# Altium footprint library common.PcbLib: 92 footprints (part 4 of 6)
Each footprint in its own frame and in the unit in brackets; x right, y up, seen from the top. Pads: shape width x height; smd on the part's side, far side on the other; paste and mask are expansions set on the pad; w line width, h text height; cw(c..) or ccw(c..) is an arc to the next point about the centre after c.
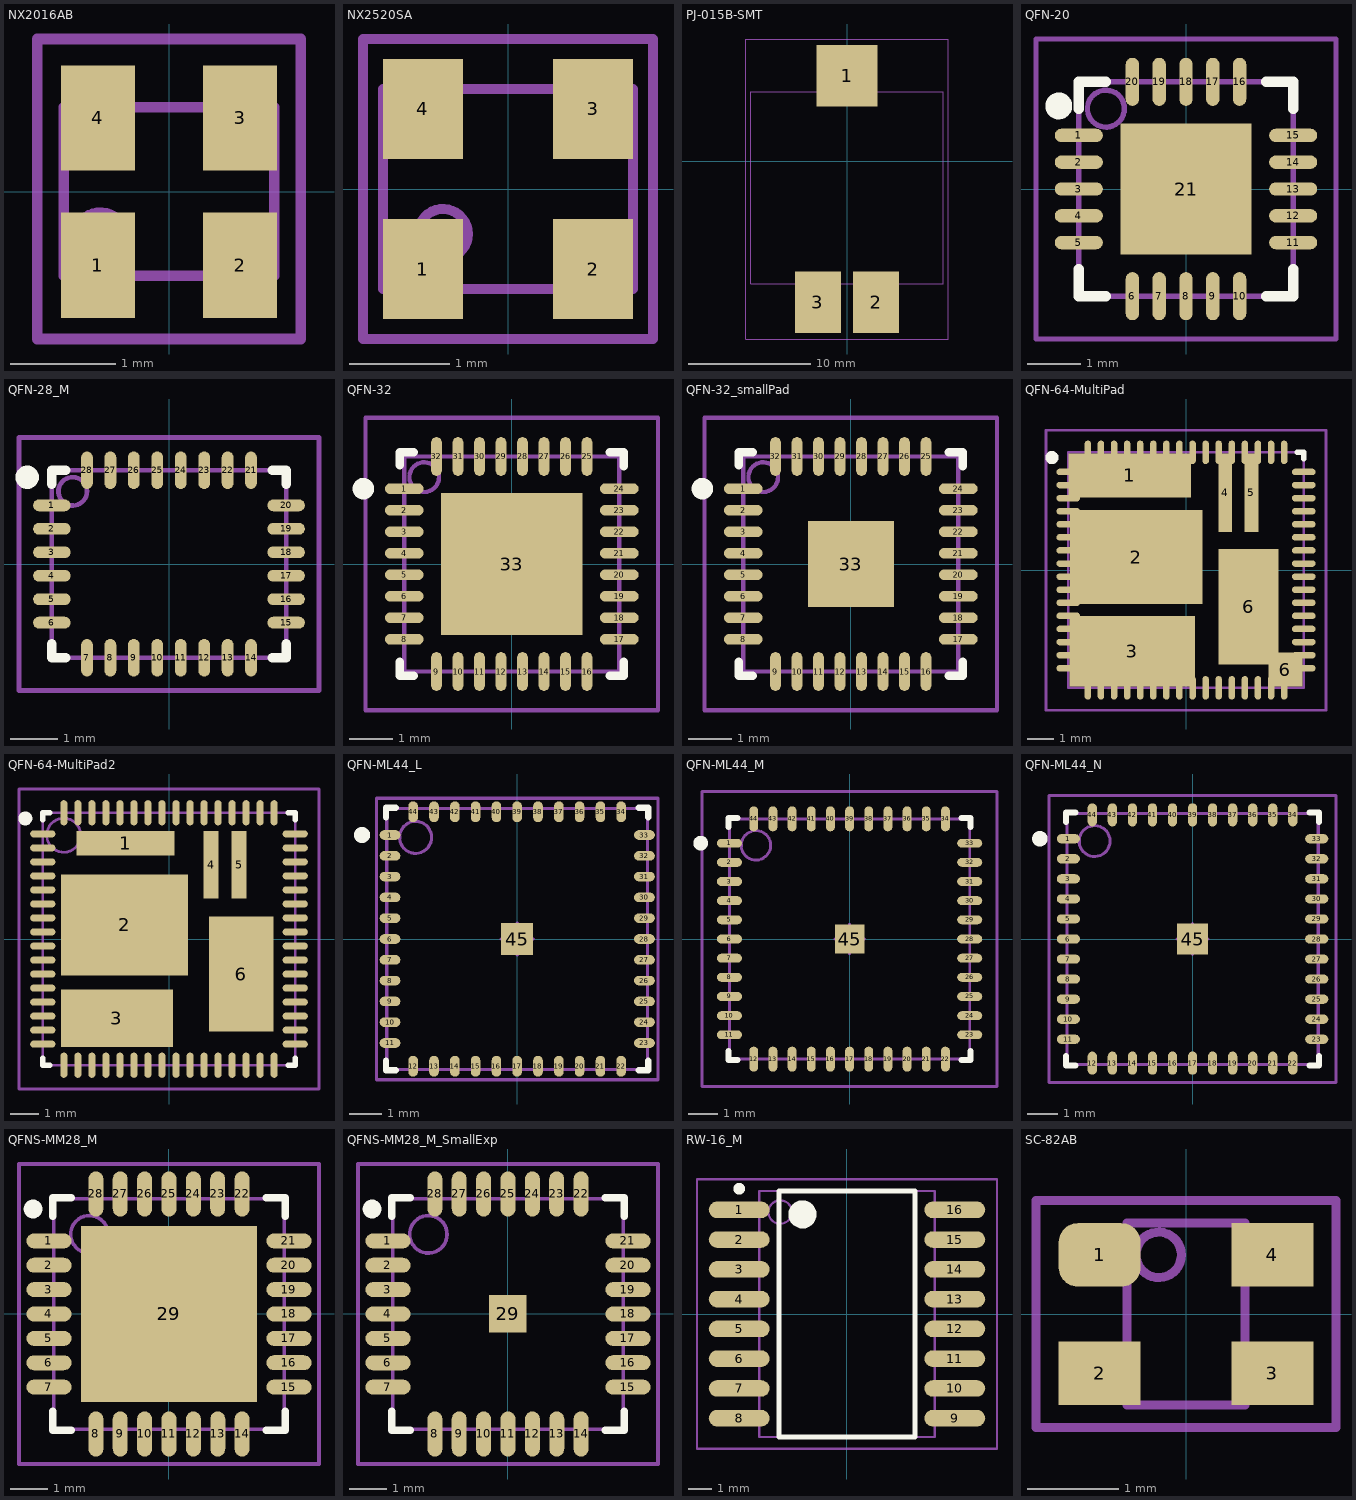
[diagram p3: the footprints below, top view; thin cyan lines are the x and y axes]

## NX2016AB [mm] "Crystal Package, Body 2.0x1.6mm, Pitch 1.05mm, IPC Low Density"
height 0.4
pads (4):
  rect 0.7x1 smd: 1(-0.675,-0.7) 2(0.675,-0.7) 3(0.675,0.7) 4(-0.675,0.7)
Mechanical 13:
  circle w0.1: c-0.65,-0.45 r0.25
  lines w0.1: -1,-0.8 -1,0.8 1,0.8 1,-0.8 -1,-0.8
Mechanical 15:
  lines w0.1: -1.25,-1.4 -1.25,1.45 1.25,1.45 1.25,-1.4 -1.25,-1.4
3D body: height 0.4, standoff 0, extent -1,-0.8 1,0.8

## NX2520SA [mm] "Crystal Package, Body 2.5x2.0mm, Pitch 1.65mm, IPC Low Density"
height 0.5
pads (4):
  rect 0.8x1 smd: 1(-0.85,-0.8) 2(0.85,-0.8) 3(0.85,0.8) 4(-0.85,0.8)
Mechanical 13:
  circle w0.1: c-0.65,-0.45 r0.25
  lines w0.1: -1.25,-1 1.25,-1 1.25,1 -1.25,1 -1.25,-1
Mechanical 15:
  lines w0.1: -1.45,-1.5 1.45,-1.5 1.45,1.5 -1.45,1.5 -1.45,-1.5
3D body: height 0.5, standoff 0, extent -1.25,-1 1.25,1

## PJ-015B-SMT [mm] "Power jack vertical SMD connector, Body 15.7x15.7mm, IPC Low Density"
height 14.4
pads (3):
  rect 5x5 smd: 1(0,7)
  rect 3.75x5 smd: 2(2.375,-11.5) 3(-2.375,-11.5)
Mechanical 13:
  lines w0.1: -7.85,-10 -7.85,5.7 7.85,5.7 7.85,-10 -7.85,-10
Mechanical 15:
  lines w0.1: -8.25,-14.5 -8.25,10 8.25,10 8.25,-14.5 -8.25,-14.5
3D body: height 14.4, standoff 0, extent -7.85,-10 7.85,5.7

## QFN-20 [mm] "QFN, 20-Pin, Body 4x4mm, Pitch 0.5mm, IPC Low Density"
height 0.8
pads (21):
  oval 0.9x0.25 smd: 1(-2,1) 2(-2,0.5) 3(-2,0) 4(-2,-0.5) 5(-2,-1) 11(2,-1) 12(2,-0.5) 13(2,0) 14(2,0.5) 15(2,1)
  oval 0.25x0.9 smd: 6(-1,-2) 7(-0.5,-2) 8(0,-2) 9(0.5,-2) 10(1,-2) 16(1,2) 17(0.5,2) 18(0,2) 19(-0.5,2) 20(-1,2)
  rect 2.45x2.45 smd: 21(0,0)
Top Overlay:
  circle w0.25: c-2.375,1.55 r0.125
  lines w0.2: -2,-1.5 -2,-2 -1.5,-2 ; -2,1.5 -2,2 -1.5,2 ; 1.5,-2 2,-2 2,-1.5 ; 1.5,2 2,2 2,1.5
Mechanical 13:
  circle w0.1: c-1.495,1.5 r0.345
  lines w0.1: -2,-2 2,-2 2,2 -2,2 -2,-2
Mechanical 15:
  lines w0.1: -0.5,0 0.5,0 ; 0,-0.5 0,0.5 ; -2.8,-2.8 2.8,-2.8 2.8,2.8 -2.8,2.8 -2.8,-2.8
3D body: height 0.8, standoff 0, extent -2,-2 2,2

## QFN-28_M [mm] "QFN, 28-Leads, Body 5x4mm, Pitch 0.5mm, IPC Low Density"
height 1.2
pads (28):
  oval 0.8x0.25 smd: 1(-2.5,1.25) 2(-2.5,0.75) 3(-2.5,0.25) 4(-2.5,-0.25) 5(-2.5,-0.75) 6(-2.5,-1.25) 15(2.5,-1.25) 16(2.5,-0.75) 17(2.5,-0.25) 18(2.5,0.25) 19(2.5,0.75) 20(2.5,1.25)
  oval 0.25x0.8 smd: 7(-1.75,-2) 8(-1.25,-2) 9(-0.75,-2) 10(-0.25,-2) 11(0.25,-2) 12(0.75,-2) 13(1.25,-2) 14(1.75,-2) 21(1.75,2) 22(1.25,2) 23(0.75,2) 24(0.25,2) 25(-0.25,2) 26(-0.75,2) 27(-1.25,2) 28(-1.75,2)
Top Overlay:
  circle w0.25: c-3.025,1.85 r0.125
  lines w0.2: -2.5,-1.7 -2.5,-2 -2.2,-2 ; -2.5,1.7 -2.5,2 -2.2,2 ; 2.2,-2 2.5,-2 2.5,-1.7 ; 2.2,2 2.5,2 2.5,1.7
Mechanical 13:
  circle w0.1: c-2.054,1.55 r0.304
  lines w0.1: -2.5,-2 2.5,-2 2.5,2 -2.5,2 -2.5,-2
Mechanical 15:
  lines w0.1: -3.2,-2.7 3.2,-2.7 3.2,2.7 -3.2,2.7 -3.2,-2.7
3D body: height 1.2, standoff 0, extent -2.5,-2 2.5,2

## QFN-32 [mm] "QFN 32-Pin, Body 5x5mm, Pitch 0.5mm, IPC Low Density"
height 0.8
pads (33):
  oval 0.9x0.25 smd: 1(-2.5,1.75) 2(-2.5,1.25) 3(-2.5,0.75) 4(-2.5,0.25) 5(-2.5,-0.25) 6(-2.5,-0.75) 7(-2.5,-1.25) 8(-2.5,-1.75) 17(2.5,-1.75) 18(2.5,-1.25) 19(2.5,-0.75) 20(2.5,-0.25) 21(2.5,0.25) 22(2.5,0.75) 23(2.5,1.25) 24(2.5,1.75)
  oval 0.25x0.9 smd: 9(-1.75,-2.5) 10(-1.25,-2.5) 11(-0.75,-2.5) 12(-0.25,-2.5) 13(0.25,-2.5) 14(0.75,-2.5) 15(1.25,-2.5) 16(1.75,-2.5) 25(1.75,2.5) 26(1.25,2.5) 27(0.75,2.5) 28(0.25,2.5) 29(-0.25,2.5) 30(-0.75,2.5) 31(-1.25,2.5) 32(-1.75,2.5)
  rect 3.3x3.3 smd: 33(0,0)
Top Overlay:
  circle w0.25: c-3.45,1.75 r0.125
  lines w0.2: -2.6,-2.275 -2.6,-2.6 -2.275,-2.6 ; -2.6,2.3 -2.6,2.6 -2.275,2.6 ; 2.275,-2.6 2.6,-2.6 2.6,-2.275 ; 2.275,2.6 2.6,2.6 2.6,2.275
Mechanical 13:
  circle w0.1: c-2.035,2.02 r0.345
  lines w0.1: -2.5,-2.5 2.5,-2.5 2.5,2.5 -2.5,2.5 -2.5,-2.5
Mechanical 15:
  lines w0.1: -0.5,0 0.5,0 ; 0,-0.5 0,0.5 ; -3.4,-3.4 3.4,-3.4 3.4,3.4 -3.4,3.4 -3.4,-3.4
3D body: height 0.8, standoff 0, extent -2.5,-2.5 2.5,2.5

## QFN-32_smallPad [mm] "QFN 32-Pin, Body 5x5mm, Pitch 0.5mm, IPC Low Density"
height 0.8
pads (33):
  oval 0.9x0.25 smd: 1(-2.5,1.75) 2(-2.5,1.25) 3(-2.5,0.75) 4(-2.5,0.25) 5(-2.5,-0.25) 6(-2.5,-0.75) 7(-2.5,-1.25) 8(-2.5,-1.75) 17(2.5,-1.75) 18(2.5,-1.25) 19(2.5,-0.75) 20(2.5,-0.25) 21(2.5,0.25) 22(2.5,0.75) 23(2.5,1.25) 24(2.5,1.75)
  oval 0.25x0.9 smd: 9(-1.75,-2.5) 10(-1.25,-2.5) 11(-0.75,-2.5) 12(-0.25,-2.5) 13(0.25,-2.5) 14(0.75,-2.5) 15(1.25,-2.5) 16(1.75,-2.5) 25(1.75,2.5) 26(1.25,2.5) 27(0.75,2.5) 28(0.25,2.5) 29(-0.25,2.5) 30(-0.75,2.5) 31(-1.25,2.5) 32(-1.75,2.5)
  rect 2x2 smd: 33(0,0)
Top Overlay:
  circle w0.25: c-3.45,1.75 r0.125
  lines w0.2: -2.6,-2.275 -2.6,-2.6 -2.275,-2.6 ; -2.6,2.3 -2.6,2.6 -2.275,2.6 ; 2.275,-2.6 2.6,-2.6 2.6,-2.275 ; 2.275,2.6 2.6,2.6 2.6,2.275
Mechanical 13:
  circle w0.1: c-2.035,2.02 r0.345
  lines w0.1: -2.5,-2.5 2.5,-2.5 2.5,2.5 -2.5,2.5 -2.5,-2.5
Mechanical 15:
  lines w0.1: -0.5,0 0.5,0 ; 0,-0.5 0,0.5 ; -3.4,-3.4 3.4,-3.4 3.4,3.4 -3.4,3.4 -3.4,-3.4
3D body: height 0.8, standoff 0, extent -2.5,-2.5 2.5,2.5

## QFN-64-MultiPad [mm] "QFN, 64 Leads, Body 9x9mm, Pitch 0.5mm, IPC Low Density"
height 0.9
pads (71):
  oval 0.9x0.25 smd: 1(-4.5,2.75) 1(-4.5,3.25) 1(-4.5,3.75) 2(-4.5,-1.25) 2(-4.5,-0.75) 2(-4.5,-0.25) 2(-4.5,0.25) 2(-4.5,0.75) 2(-4.5,1.25) 2(-4.5,1.75) 2(-4.5,2.25) 3(-4.5,-3.75) 3(-4.5,-3.25) 3(-4.5,-2.75) 3(-4.5,-2.25) 3(-4.5,-1.75) 6(4.5,-3.75) 6(4.5,-3.25) 6(4.5,-0.25) 6(4.5,0.75) 6(4.5,2.25) 6(4.5,2.75) 6(4.5,3.25) 6(4.5,3.75) 9(4.5,-2.75) 10(4.5,-2.25) 11(4.5,-1.75) 12(4.5,-1.25) 13(4.5,-0.75) 14(4.5,0.25) 15(4.5,1.25) 16(4.5,1.75)
  oval 0.25x0.9 smd: 1(-3.75,4.5) 1(-3.25,4.5) 1(-2.75,4.5) 1(-2.25,4.5) 1(-1.75,4.5) 1(-1.25,4.5) 1(-0.75,4.5) 1(-0.25,4.5) 1(0.25,4.5) 2(0.75,-4.5) 2(0.75,4.5) 3(-3.75,-4.5) 3(-3.25,-4.5) 3(-2.75,-4.5) 3(-2.25,-4.5) 3(-1.75,-4.5) 3(-1.25,-4.5) 3(-0.75,-4.5) 3(-0.25,-4.5) 3(0.25,-4.5) 4(1.25,4.5) 4(1.75,4.5) 5(2.25,4.5) 5(2.75,4.5) 6(1.75,-4.5) 6(3.25,-4.5) 6(3.25,4.5) 6(3.75,-4.5) 6(3.75,4.5) 7(2.25,-4.5) 8(2.75,-4.5) 17(1.25,-4.5)
  rect 4.7x1.67 smd: 1(-2.15,3.615)
  rect 5.05x3.6 smd: 2(-1.9,0.5)
  rect 4.8x2.7 smd: 3(-2.05,-3.1)
  rect 0.53x3 smd: 4(1.5,2.95) 5(2.5,2.95)
  rect 2.3x4.4 smd: 6(2.39,-1.4)
  rect 1.3x1.3 smd: 6(3.8,-3.8)
Top Overlay:
  circle w0.25: c-5.125,4.3 r0.125
  lines w0.2: 4.25,4.5 4.5,4.5 4.5,4.25
Mechanical 13:
  circle w0.1: c-3.757,3.7 r0.607
  lines w0.1: -4.5,-4.5 -4.5,4.5 4.5,4.5 4.5,-4.5 -4.5,-4.5
Mechanical 15:
  lines w0.1: -0.5,0 0.5,0 ; 0,-0.5 0,0.5 ; -5.35,-5.35 -5.35,5.35 5.35,5.35 5.35,-5.35 -5.35,-5.35
3D body: height 0.9, standoff 0, extent -4.5,-4.5 4.5,4.5

## QFN-64-MultiPad2 [mm] "QFN, 64 Leads, Body 9x9mm, Pitch 0.5mm, IPC Low Density"
height 0.9
pads (70):
  oval 0.9x0.25 smd: 1(-4.5,2.75) 1(-4.5,3.25) 1(-4.5,3.75) 2(-4.5,-1.25) 2(-4.5,-0.75) 2(-4.5,-0.25) 2(-4.5,0.25) 2(-4.5,0.75) 2(-4.5,1.25) 2(-4.5,1.75) 2(-4.5,2.25) 3(-4.5,-3.75) 3(-4.5,-3.25) 3(-4.5,-2.75) 3(-4.5,-2.25) 3(-4.5,-1.75) 6(4.5,-3.75) 6(4.5,-3.25) 6(4.5,-0.25) 6(4.5,0.75) 6(4.5,2.25) 6(4.5,2.75) 6(4.5,3.25) 6(4.5,3.75) 9(4.5,-2.75) 10(4.5,-2.25) 11(4.5,-1.75) 12(4.5,-1.25) 13(4.5,-0.75) 14(4.5,0.25) 15(4.5,1.25) 16(4.5,1.75)
  oval 0.25x0.9 smd: 1(-3.75,4.5) 1(-3.25,4.5) 1(-2.75,4.5) 1(-2.25,4.5) 1(-1.75,4.5) 1(-1.25,4.5) 1(-0.75,4.5) 1(-0.25,4.5) 1(0.25,4.5) 2(0.75,-4.5) 2(0.75,4.5) 3(-3.75,-4.5) 3(-3.25,-4.5) 3(-2.75,-4.5) 3(-2.25,-4.5) 3(-1.75,-4.5) 3(-1.25,-4.5) 3(-0.75,-4.5) 3(-0.25,-4.5) 3(0.25,-4.5) 4(1.25,4.5) 4(1.75,4.5) 5(2.25,4.5) 5(2.75,4.5) 6(1.75,-4.5) 6(3.25,-4.5) 6(3.25,4.5) 6(3.75,-4.5) 6(3.75,4.5) 7(2.25,-4.5) 8(2.75,-4.5) 17(1.25,-4.5)
  rect 3.5x0.87 smd: 1(-1.55,3.415)
  rect 4.53x3.6 smd: 2(-1.585,0.5)
  rect 3.99x2.04 smd: 3(-1.855,-2.83)
  rect 0.53x2.41 smd: 4(1.5,2.645) 5(2.5,2.645)
  rect 2.3x4.1 smd: 6(2.57,-1.25)
Top Overlay:
  circle w0.25: c-5.125,4.3 r0.125
  lines w0.2: -4.5,-4.25 -4.5,-4.5 -4.25,-4.5 ; -4.5,4.25 -4.5,4.5 -4.25,4.5 ; 4.25,-4.5 4.5,-4.5 4.5,-4.25 ; 4.25,4.5 4.5,4.5 4.5,4.25
Mechanical 13:
  circle w0.1: c-3.757,3.7 r0.607
  lines w0.1: -4.5,-4.5 4.5,-4.5 4.5,4.5 -4.5,4.5 -4.5,-4.5
Mechanical 15:
  lines w0.1: -0.5,0 0.5,0 ; 0,-0.5 0,0.5 ; -5.35,-5.35 5.35,-5.35 5.35,5.35 -5.35,5.35 -5.35,-5.35
3D body: height 0.9, standoff 0, extent -4.5,-4.5 4.5,4.5

## QFN-ML44_L [mm] "QFN, 44-Leads, Body 8x8 mm, Pitch 0.65mm, IPC High Density"
height 1
pads (45):
  oval 0.65x0.3 smd: 1(-3.975,3.25) 2(-3.975,2.6) 3(-3.975,1.95) 4(-3.975,1.3) 5(-3.975,0.65) 6(-3.975,0) 7(-3.975,-0.65) 8(-3.975,-1.3) 9(-3.975,-1.95) 10(-3.975,-2.6) 11(-3.975,-3.25) 23(3.975,-3.25) 24(3.975,-2.6) 25(3.975,-1.95) 26(3.975,-1.3) 27(3.975,-0.65) 28(3.975,0) 29(3.975,0.65) 30(3.975,1.3) 31(3.975,1.95) 32(3.975,2.6) 33(3.975,3.25)
  oval 0.3x0.65 smd: 12(-3.25,-3.975) 13(-2.6,-3.975) 14(-1.95,-3.975) 15(-1.3,-3.975) 16(-0.65,-3.975) 17(0,-3.975) 18(0.65,-3.975) 19(1.3,-3.975) 20(1.95,-3.975) 21(2.6,-3.975) 22(3.25,-3.975) 34(3.25,3.975) 35(2.6,3.975) 36(1.95,3.975) 37(1.3,3.975) 38(0.65,3.975) 39(0,3.975) 40(-0.65,3.975) 41(-1.3,3.975) 42(-1.95,3.975) 43(-2.6,3.975) 44(-3.25,3.975)
  rect 1x1 smd: 45(0,0)
Top Overlay:
  circle w0.25: c-4.85,3.25 r0.125
  lines w0.2: -4.1,-3.8 -4.1,-4.1 -3.8,-4.1 ; -4.1,3.8 -4.1,4.1 -3.8,4.1 ; 3.8,-4.1 4.1,-4.1 4.1,-3.8 ; 3.8,4.1 4.1,4.1 4.1,3.8
Mechanical 13:
  circle w0.1: c-3.175,3.175 r0.5
  lines w0.1: -4.075,-4.075 -4.075,4.075 4.075,4.075 4.075,-4.075 -4.075,-4.075
Mechanical 15:
  lines w0.1: -0.5,0 0.5,0 ; 0,-0.5 0,0.5 ; -4.4,-4.4 -4.4,4.4 4.4,4.4 4.4,-4.4 -4.4,-4.4
3D body: height 1, standoff 0, extent -4.075,-4.075 4.075,4.075

## QFN-ML44_M [mm] "QFN, 44-Leads, Body 8x8 mm, Pitch 0.65mm, IPC Low Density"
height 1
pads (45):
  oval 0.85x0.3 smd: 1(-4.075,3.25) 2(-4.075,2.6) 3(-4.075,1.95) 4(-4.075,1.3) 5(-4.075,0.65) 6(-4.075,0) 7(-4.075,-0.65) 8(-4.075,-1.3) 9(-4.075,-1.95) 10(-4.075,-2.6) 11(-4.075,-3.25) 23(4.075,-3.25) 24(4.075,-2.6) 25(4.075,-1.95) 26(4.075,-1.3) 27(4.075,-0.65) 28(4.075,0) 29(4.075,0.65) 30(4.075,1.3) 31(4.075,1.95) 32(4.075,2.6) 33(4.075,3.25)
  oval 0.3x0.85 smd: 12(-3.25,-4.075) 13(-2.6,-4.075) 14(-1.95,-4.075) 15(-1.3,-4.075) 16(-0.65,-4.075) 17(0,-4.075) 18(0.65,-4.075) 19(1.3,-4.075) 20(1.95,-4.075) 21(2.6,-4.075) 22(3.25,-4.075) 34(3.25,4.075) 35(2.6,4.075) 36(1.95,4.075) 37(1.3,4.075) 38(0.65,4.075) 39(0,4.075) 40(-0.65,4.075) 41(-1.3,4.075) 42(-1.95,4.075) 43(-2.6,4.075) 44(-3.25,4.075)
  rect 1x1 smd: 45(0,0)
Top Overlay:
  circle w0.25: c-5.05,3.25 r0.125
  lines w0.2: -4.1,-3.8 -4.1,-4.1 -3.8,-4.1 ; -4.1,3.8 -4.1,4.1 -3.8,4.1 ; 3.8,-4.1 4.1,-4.1 4.1,-3.8 ; 3.8,4.1 4.1,4.1 4.1,3.8
Mechanical 13:
  circle w0.1: c-3.175,3.175 r0.5
  lines w0.1: -4.075,-4.075 -4.075,4.075 4.075,4.075 4.075,-4.075 -4.075,-4.075
Mechanical 15:
  lines w0.1: -0.5,0 0.5,0 ; 0,-0.5 0,0.5 ; -5,-5 -5,5 5,5 5,-5 -5,-5
3D body: height 1, standoff 0, extent -4.075,-4.075 4.075,4.075

## QFN-ML44_N [mm] "QFN, 44-Leads, Body 8x8 mm, Pitch 0.65mm, IPC Medium Density"
height 1
pads (45):
  oval 0.75x0.3 smd: 1(-4.025,3.25) 2(-4.025,2.6) 3(-4.025,1.95) 4(-4.025,1.3) 5(-4.025,0.65) 6(-4.025,0) 7(-4.025,-0.65) 8(-4.025,-1.3) 9(-4.025,-1.95) 10(-4.025,-2.6) 11(-4.025,-3.25) 23(4.025,-3.25) 24(4.025,-2.6) 25(4.025,-1.95) 26(4.025,-1.3) 27(4.025,-0.65) 28(4.025,0) 29(4.025,0.65) 30(4.025,1.3) 31(4.025,1.95) 32(4.025,2.6) 33(4.025,3.25)
  oval 0.3x0.75 smd: 12(-3.25,-4.025) 13(-2.6,-4.025) 14(-1.95,-4.025) 15(-1.3,-4.025) 16(-0.65,-4.025) 17(0,-4.025) 18(0.65,-4.025) 19(1.3,-4.025) 20(1.95,-4.025) 21(2.6,-4.025) 22(3.25,-4.025) 34(3.25,4.025) 35(2.6,4.025) 36(1.95,4.025) 37(1.3,4.025) 38(0.65,4.025) 39(0,4.025) 40(-0.65,4.025) 41(-1.3,4.025) 42(-1.95,4.025) 43(-2.6,4.025) 44(-3.25,4.025)
  rect 1x1 smd: 45(0,0)
Top Overlay:
  circle w0.25: c-4.95,3.25 r0.125
  lines w0.2: -4.1,-3.8 -4.1,-4.1 -3.8,-4.1 ; -4.1,3.8 -4.1,4.1 -3.8,4.1 ; 3.8,-4.1 4.1,-4.1 4.1,-3.8 ; 3.8,4.1 4.1,4.1 4.1,3.8
Mechanical 13:
  circle w0.1: c-3.175,3.175 r0.5
  lines w0.1: -4.075,-4.075 -4.075,4.075 4.075,4.075 4.075,-4.075 -4.075,-4.075
Mechanical 15:
  lines w0.1: -0.5,0 0.5,0 ; 0,-0.5 0,0.5 ; -4.65,-4.65 -4.65,4.65 4.65,4.65 4.65,-4.65 -4.65,-4.65
3D body: height 1, standoff 0, extent -4.075,-4.075 4.075,4.075

## QFNS-MM28_M [mm] "QFN, 28-Leads, Body 6x6 mm, Pitch 0.65mm, IPC Low Density"
height 1
pads (29):
  oval 1.2x0.4 smd: 1(-3.2,1.95) 2(-3.2,1.3) 3(-3.2,0.65) 4(-3.2,0) 5(-3.2,-0.65) 6(-3.2,-1.3) 7(-3.2,-1.95) 15(3.2,-1.95) 16(3.2,-1.3) 17(3.2,-0.65) 18(3.2,0) 19(3.2,0.65) 20(3.2,1.3) 21(3.2,1.95)
  oval 0.4x1.2 smd: 8(-1.95,-3.2) 9(-1.3,-3.2) 10(-0.65,-3.2) 11(0,-3.2) 12(0.65,-3.2) 13(1.3,-3.2) 14(1.95,-3.2) 22(1.95,3.2) 23(1.3,3.2) 24(0.65,3.2) 25(0,3.2) 26(-0.65,3.2) 27(-1.3,3.2) 28(-1.95,3.2)
  rect 4.7x4.7 smd: 29(0,0)
Top Overlay:
  circle w0.25: c-3.625,2.8 r0.125
  lines w0.2: -3.1,-2.6 -3.1,-3.1 -2.6,-3.1 ; -3.1,2.6 -3.1,3.1 -2.6,3.1 ; 2.6,-3.1 3.1,-3.1 3.1,-2.6 ; 2.6,3.1 3.1,3.1 3.1,2.6
Mechanical 13:
  circle w0.1: c-2.125,2.125 r0.5
  lines w0.1: -3.075,-3.075 3.075,-3.075 3.075,3.075 -3.075,3.075 -3.075,-3.075
Mechanical 15:
  lines w0.1: -4,-4 4,-4 4,4 -4,4 -4,-4
3D body: height 1, standoff 0, extent -3.075,-3.075 3.075,3.075

## QFNS-MM28_M_SmallExp [mm] "QFN, 28-Leads, Body 6x6 mm, Pitch 0.65mm, IPC Low Density"
height 1
pads (29):
  oval 1.2x0.4 smd: 1(-3.2,1.95) 2(-3.2,1.3) 3(-3.2,0.65) 4(-3.2,0) 5(-3.2,-0.65) 6(-3.2,-1.3) 7(-3.2,-1.95) 15(3.2,-1.95) 16(3.2,-1.3) 17(3.2,-0.65) 18(3.2,0) 19(3.2,0.65) 20(3.2,1.3) 21(3.2,1.95)
  oval 0.4x1.2 smd: 8(-1.95,-3.2) 9(-1.3,-3.2) 10(-0.65,-3.2) 11(0,-3.2) 12(0.65,-3.2) 13(1.3,-3.2) 14(1.95,-3.2) 22(1.95,3.2) 23(1.3,3.2) 24(0.65,3.2) 25(0,3.2) 26(-0.65,3.2) 27(-1.3,3.2) 28(-1.95,3.2)
  rect 1x1 smd: 29(0,0)
Top Overlay:
  circle w0.25: c-3.625,2.8 r0.125
  lines w0.2: -3.1,-2.6 -3.1,-3.1 -2.6,-3.1 ; -3.1,2.6 -3.1,3.1 -2.6,3.1 ; 2.6,-3.1 3.1,-3.1 3.1,-2.6 ; 2.6,3.1 3.1,3.1 3.1,2.6
Mechanical 13:
  circle w0.1: c-2.125,2.125 r0.5
  lines w0.1: -3.075,-3.075 3.075,-3.075 3.075,3.075 -3.075,3.075 -3.075,-3.075
Mechanical 15:
  lines w0.1: -4,-4 4,-4 4,4 -4,4 -4,-4
3D body: height 1, standoff 0, extent -3.075,-3.075 3.075,3.075

## RW-16_M [mm] "16-Pin Wide Body Small Outline Integrated Circuit 1.27 mm Pitch, IPC Low Density"
height 2.65
pads (16):
  oval 2.6x0.7 smd: 1(-4.6,4.445) 2(-4.6,3.175) 3(-4.6,1.905) 4(-4.6,0.635) 5(-4.6,-0.635) 6(-4.6,-1.905) 7(-4.6,-3.175) 8(-4.6,-4.445) 9(4.6,-4.445) 10(4.6,-3.175) 11(4.6,-1.905) 12(4.6,-0.635) 13(4.6,0.635) 14(4.6,1.905) 15(4.6,3.175) 16(4.6,4.445)
Top Overlay:
  circle w0.6: c-1.9,4.25 r0.3
  circle w0.25: c-4.6,5.345 r0.125
  lines w0.2: -2.9,-5.25 2.9,-5.25 2.9,5.25 -2.9,5.25 -2.9,-5.25
Mechanical 13:
  circle w0.1: c-2.85,4.35 r0.5
  lines w0.1: -3.75,-5.25 3.75,-5.25 3.75,5.25 -3.75,5.25 -3.75,-5.25
Mechanical 15:
  lines w0.1: -6.4,-5.75 6.4,-5.75 6.4,5.75 -6.4,5.75 -6.4,-5.75
3D body: height 2.65, standoff 0, extent -3.75,-5.25 3.75,5.25

## SC-82AB [mm] "4-Lead Body 2.0x1.25mm, Pitch 1.3mm, IPC Low Density"
height 1.1
pads (4):
  rrect60% 0.9x0.7 smd: 1(-0.95,0.65)
  rect 0.9x0.7 smd: 2(-0.95,-0.65) 3(0.95,-0.65) 4(0.95,0.65)
Mechanical 13:
  circle w0.1: c-0.3,0.65 r0.25
  lines w0.1: -0.65,-1 0.65,-1 0.65,1 -0.65,1 -0.65,-1
Mechanical 15:
  lines w0.1: -1.65,-1.25 1.65,-1.25 1.65,1.25 -1.65,1.25 -1.65,-1.25
3D body: height 1.1, standoff 0, extent -0.65,-1 0.65,1